# Altium schematic symbol library TLV7111233DSER.SchLib: 1 symbol
Pins are listed as number, name and electrical type; pins without a type are passive.

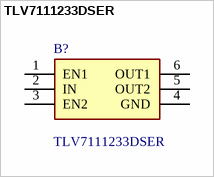
[diagram p0: symbol TLV7111233DSER]

## TLV7111233DSER
designator B?
Dual, 200mA, Low-IQ, Low-Dropout Regulator for Portable Devices; Manufacturer_Name: Texas Instruments; Geometry.Height: 0.8mm; Mouser Part Number: 595-TLV7111233DSER; Mouser Price/Stock: https://www.mouser.co.uk/ProductDetail/Texas-Instruments/TLV7111233DSER?qs=cBe3DO7yhR4lodgkJN%2FvTA%3D%3D; Manufacturer_Part_Number: TLV7111233DSER; Datasheet Link: http://www.ti.com/lit/gpn/tlv711
footprint SON50P150X150X80-6N
pins: 1 EN1, 2 IN, 3 EN2, 4 GND, 5 OUT2, 6 OUT1